# EAGLE library part 692112030100 (library Wurth_Connectors_WR-USB)
WR-COM USB 3.0 Type A SMT Plug with Clip Kind Properties Durability:5 000 Mating cycles Connector Type:USB Gender:Plug Type:Horizontal General Information Operating Temperature:-20up to +85 °C Compliance:RoHS Electrical Properties IR 1:1.8A Working Voltage:30V (AC) Withstanding Voltage:1000V (AC) Contact Resistance:50 mΩ Material Properties Insulator Material:LCP Insulator Flammability Rating:UL94 V-0 Color:Blue Contact Material:Phosphor Bronze Contact Plating:Matte Tin over Nickel Contact Type:Stamped Shielding Material:Steel Shielding Plating:Tin <https://www.we-online.com/catalog/media/o33019v209%20Family_WR-COM_692112030100.jpg> Details see: https://www.we-online.com/catalog/en/COM_3_0_SMT_TYPE_A_PLUG_WITH_CLIP/ Updated by Ella Wu 2021-09-28 2021 (C) Würth Elektronik
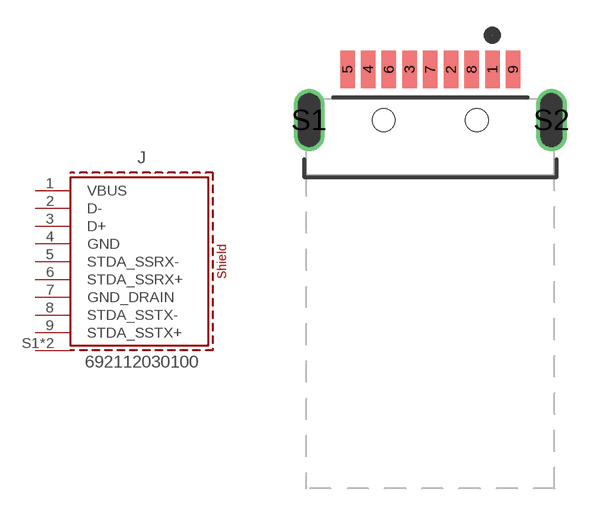
[diagram p28: symbol with the pads of 692112030100; footprint 692112030100]

Designator prefix J

## 692112030100 (APPLICATION: USB 3.0; DATASHEET-URL: https://www.we-online.com/redexpert/spec/692112030100?ae; GERDER: Plug; INTERFACE-TYPE: Type A; IR: 1.8A; MOUNT: SMT; PACKAGING: Tray; PART-NUMBER: 692112030100; PINS: 9; TYPE: Horizontal; VALUE: 692112030100; WORKING-VOLTAGE: 30V(AC))  [692112030100]
1  VBUS  pas
2  D-  pas
3  D+  pas
4  GND  pas
5  STDA_SSRX-  pas
6  STDA_SSRX+  pas
7  GND_DRAIN  pas
8  STDA_SSTX-  pas
9  STDA_SSTX+  pas
S1  SHIELD  pas
S2  SHIELD  pas

## Footprint 692112030100 (pad centres in mm)
WR-COM USB 3.0 Type A SMT Plug with Clip
smd 0.7 x 1.8: 1 3,10.85; 2 1,10.85; 3 -1,10.85; 4 -3,10.85; 5 -4,10.85; 6 -2,10.85; 7 0,10.85; 8 2,10.85; 9 4,10.85
drill 1 pad 1 long: S1 -5.85,8.4; S2 5.85,8.4
hole 1.1 at 2.25,8.4
hole 1.1 at -2.25,8.4